# Altium schematic symbol library max485.SchLib: 1 symbol
Pins are listed as number, name and electrical type; pins without a type are passive.

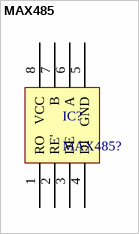
[diagram p0: symbol MAX485]

## MAX485
designator IC?, comment MAX485?
pins: 1 RO, 2 RE', 3 DE, 4 DI, 5 GND, 6 A, 7 B, 8 VCC